# EAGLE library part BQ25713 (library CPSS_IC)
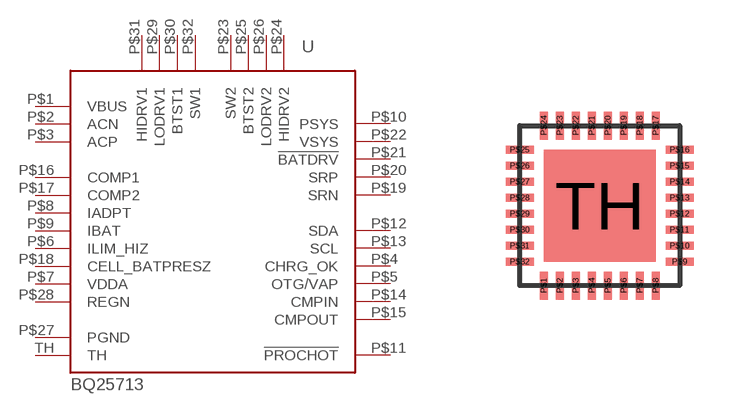
[diagram p6: symbol with the pads of WQFN-32; footprint WQFN-32]

Designator prefix U

## BQ25713  [WQFN-32]
P$1  VBUS
P$2  ACN
P$3  ACP
P$4  CHRG_OK
P$5  OTG/VAP
P$6  ILIM_HIZ
P$7  VDDA
P$8  IADPT
P$9  IBAT
P$10  PSYS
P$11  !PROCHOT
P$12  SDA
P$13  SCL
P$14  CMPIN
P$15  CMPOUT
P$16  COMP1
P$17  COMP2
P$18  CELL_BATPRESZ
P$19  SRN
P$20  SRP
P$21  !BATDRV
P$22  VSYS
P$23  SW2
P$24  HIDRV2
P$25  BTST2
P$26  LODRV2
P$27  PGND
P$28  REGN
P$29  LODRV1
P$30  BTST1
P$31  HIDRV1
P$32  SW1
TH  TH

## Footprint WQFN-32 (pad centres in mm)
smd 0.2 x 0.7: P$1 -1.4,-2; P$2 -1,-2; P$3 -0.6,-2; P$4 -0.2,-2; P$5 0.2,-2; P$6 0.6,-2; P$7 1,-2; P$8 1.4,-2; P$17 1.4,2; P$18 1,2; P$19 0.6,2; P$20 0.2,2; P$21 -0.2,2; P$22 -0.6,2; P$23 -1,2; P$24 -1.4,2
smd 0.7 x 0.2: P$9 2,-1.4; P$10 2,-1; P$11 2,-0.6; P$12 2,-0.2; P$13 2,0.2; P$14 2,0.6; P$15 2,1; P$16 2,1.4; P$25 -2,1.4; P$26 -2,1; P$27 -2,0.6; P$28 -2,0.2; P$29 -2,-0.2; P$30 -2,-0.6; P$31 -2,-1; P$32 -2,-1.4
smd 2.8 x 2.8: TH 0,0